# EAGLE library part STC15F204AE (library OctoWatch)
15L204AE microchip for watch
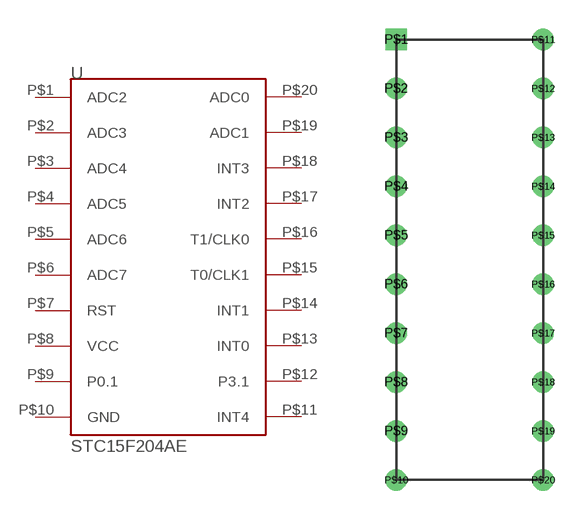
[diagram p1: symbol with the pads of STC15F204AE; footprint STC15F204AE]

Designator prefix -

## STC15F204AE  [STC15F204AE]
P$1  ADC2
P$2  ADC3
P$3  ADC4
P$4  ADC5
P$5  ADC6
P$6  ADC7
P$7  RST
P$8  VCC
P$9  P0.1
P$10  GND
P$11  INT4
P$12  P3.1
P$13  INT0
P$14  INT1
P$15  T0/CLK1
P$16  T1/CLK0
P$17  INT2
P$18  INT3
P$19  ADC1
P$20  ADC0

## Footprint STC15F204AE (pad centres in mm)
15L204EA (Dual Inline Package DIP-20)
drill 0.6 square: P$1 -35.56,7.62
drill 0.6: P$2 -35.56,5.08; P$3 -35.56,2.54; P$4 -35.56,0; P$5 -35.56,-2.54; P$6 -35.56,-5.08; P$7 -35.56,-7.62; P$8 -35.56,-10.16; P$9 -35.56,-12.7; P$10 -35.56,-15.24; P$11 -27.94,7.62; P$12 -27.94,5.08; P$13 -27.94,2.54; P$14 -27.94,0; P$15 -27.94,-2.54; P$16 -27.94,-5.08; P$17 -27.94,-7.62; P$18 -27.94,-10.16; P$19 -27.94,-12.7; P$20 -27.94,-15.24